# Altium footprint library W2A45C103MAT2A.PcbLib: 1 footprints
Each footprint in its own frame and in the unit in brackets; x right, y up, seen from the top. Pads: shape width x height; smd on the part's side, far side on the other; paste and mask are expansions set on the pad; w line width, h text height; cw(c..) or ccw(c..) is an arc to the next point about the centre after c.
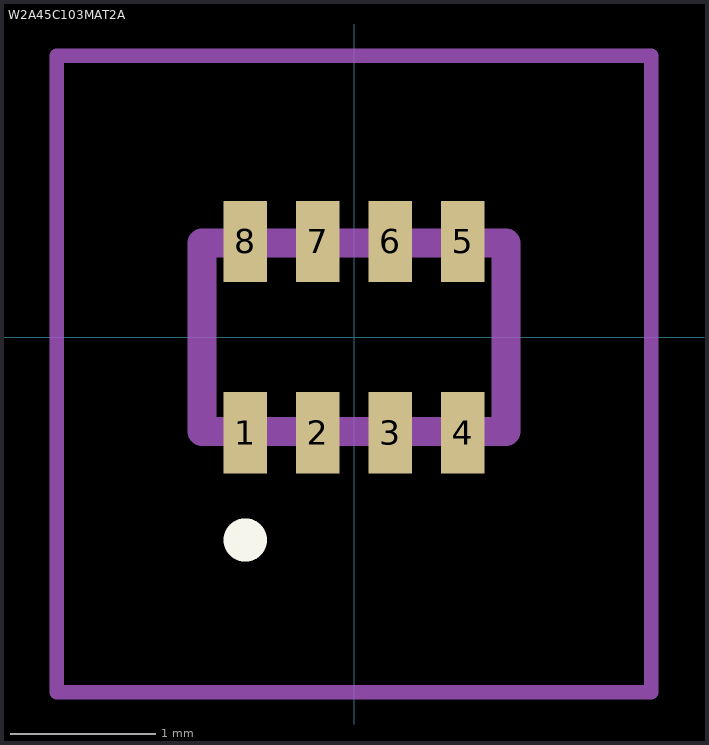
[diagram p0: the footprint, top view; thin cyan lines are the x and y axes]

## W2A45C103MAT2A [mm]
pads (8):
  rect 0.3x0.56 smd: 1(-0.75,-0.66) 2(-0.25,-0.66) 3(0.25,-0.66) 4(0.75,-0.66) 5(0.75,0.66) 6(0.25,0.66) 7(-0.25,0.66) 8(-0.75,0.66)
Top Overlay:
  lines w0.2: -0.8,-1.4 -0.8,-1.4 ; -0.8,-1.4 ccw(c-0.75,-1.4) -0.7,-1.4 ; -0.8,-1.4 cw(c-0.75,-1.4) -0.7,-1.4 ; -0.8,-1.4 -0.8,-1.4 ; -0.8,-1.4 ccw(c-0.75,-1.4) -0.7,-1.4 ; -0.7,-1.4 -0.7,-1.4
Mechanical 15:
  lines w0.2: -1.05,-0.65 1.05,-0.65 1.05,0.65 -1.05,0.65 -1.05,-0.65
Mechanical 20:
  lines w0.1: -2.05,-2.45 2.05,-2.45 2.05,1.94 -2.05,1.94 -2.05,-2.45